# Altium schematic symbol library AlbinsComponents.SchLib: 8 symbols
Pins are listed as number, name and electrical type; pins without a type are passive.

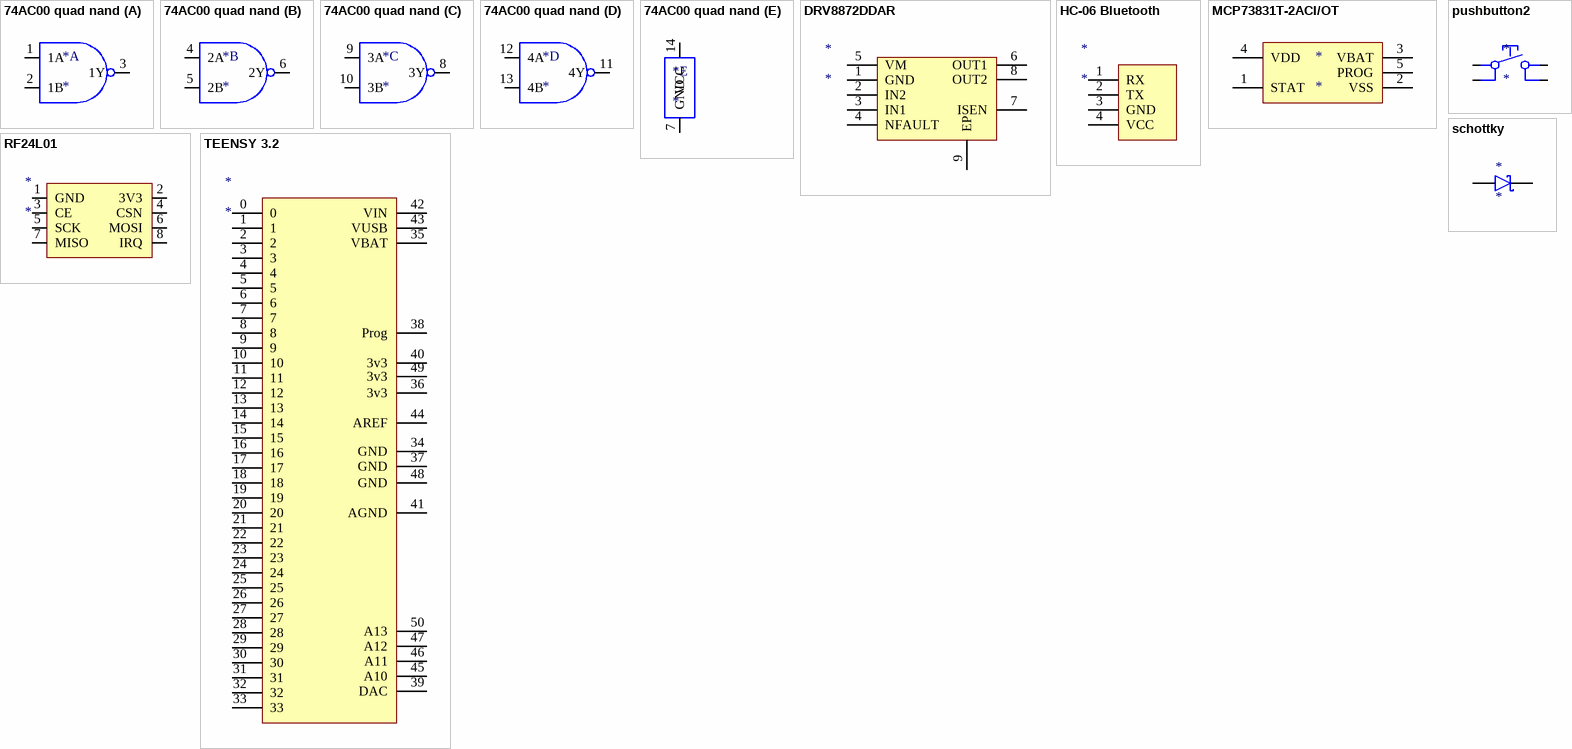
[diagram p0: symbols 74AC00 quad nand to TEENSY 3.2]

## 74AC00 quad nand
designator *
ComponentLink1Description: datasheet; ComponentLink1URL: http://www.ti.com/lit/ds/symlink/cd74ac00.pdf
footprint SOIC-14 (SOIC, 14-Leads, Body 8,65x3,90mm, Pitch 1,27mm, IPC Low Density)
part A pins: 1 1A, 2 1B, 3 1Y
part B pins: 4 2A, 5 2B, 6 2Y
part C pins: 8 3Y, 9 3A, 10 3B
part D pins: 11 4Y, 12 4A, 13 4B
part E pins: 7 GND (power), 14 VCC (power)

## DRV8872DDAR
designator *
footprint SOP127P600X170_HS-9M (SOP, 8-Leads, Body 4,90x3,90mm, Pitch 1,27mm, Thermal Pad 3,10x2,40mm, IPC Low Density)
pins: 1 GND, 2 IN2, 3 IN1, 4 NFAULT, 5 VM, 6 OUT1, 7 ISEN, 8 OUT2, 9 EP

## HC-06 Bluetooth
designator *
footprint HC-06
pins: 1 RX, 2 TX, 3 GND, 4 VCC

## MCP73831T-2ACI/OT
designator *
USB battery charger
footprint SOT23 5-leads_r (SOT23, 5-Leads, Body 2,90x2,45mm, Pitch 0,95mm, IPC Low Density)
pins: 1 STAT, 2 VSS, 3 VBAT, 4 VDD, 5 PROG

## pushbutton2
designator *
footprint pushbutton smd 3d
pins: 1, 2, 3, 4

## RF24L01
designator *
footprint RF
pins: 1 GND, 2 3V3, 3 CE, 4 CSN, 5 SCK, 6 MOSI, 7 MISO, 8 IRQ

## schottky
designator *
footprint schottky smd (Molded Diode, 2-Leads, Body 4,28x2,58mm, IPC Low Density)
pins: 1 A, 2 C

## TEENSY 3.2
designator *
footprint TEENSY 3.2
pins: 0, 1, 2, 3, 4, 5, 6, 7, 8, 9, 10, 11, 12, 13 "LED", 14, 15, 16, 17, 18, 19, 20, 21, 22, 23, 24, 25, 26, 27, 28, 29, 30, 31, 32, 33, 34 GND, 35 VBAT, 36 3v3, 37 GND, 38 Prog, 39 DAC, 40 3v3, 41 AGND, 42 VIN, 43 VUSB, 44 AREF, 45 A10, 46 A11, 47 A12, 48 GND, 49 3v3, 50 A13